# EAGLE library part INA219_SIL (library Breakouts)
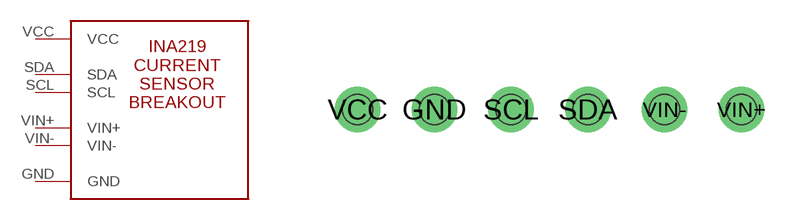
[diagram p0: symbol with the pads of INA219_SIL; footprint INA219_SIL]

Designator prefix -

## INA219_SIL  [INA219_SIL]
GND  GND
SCL  SCL
SDA  SDA
VCC  VCC
VIN+  VIN+
VIN-  VIN-

## Footprint INA219_SIL (pad centres in mm)
https://www.adafruit.com/product/904
drill 1: GND 9.398,2.794; SCL 11.938,2.794; SDA 14.478,2.794; VCC 6.858,2.794; VIN+ 19.558,2.794; VIN- 17.018,2.794
hole 1 at 6.858,2.794
hole 1 at 9.398,2.794
hole 1 at 11.938,2.794
hole 1 at 14.478,2.794
hole 1 at 17.018,2.794
hole 1 at 19.558,2.794